# Altium integrated library Cypress Clocks & Buffers Clock Generation.IntLib: 249 symbols (part 12 of 12)
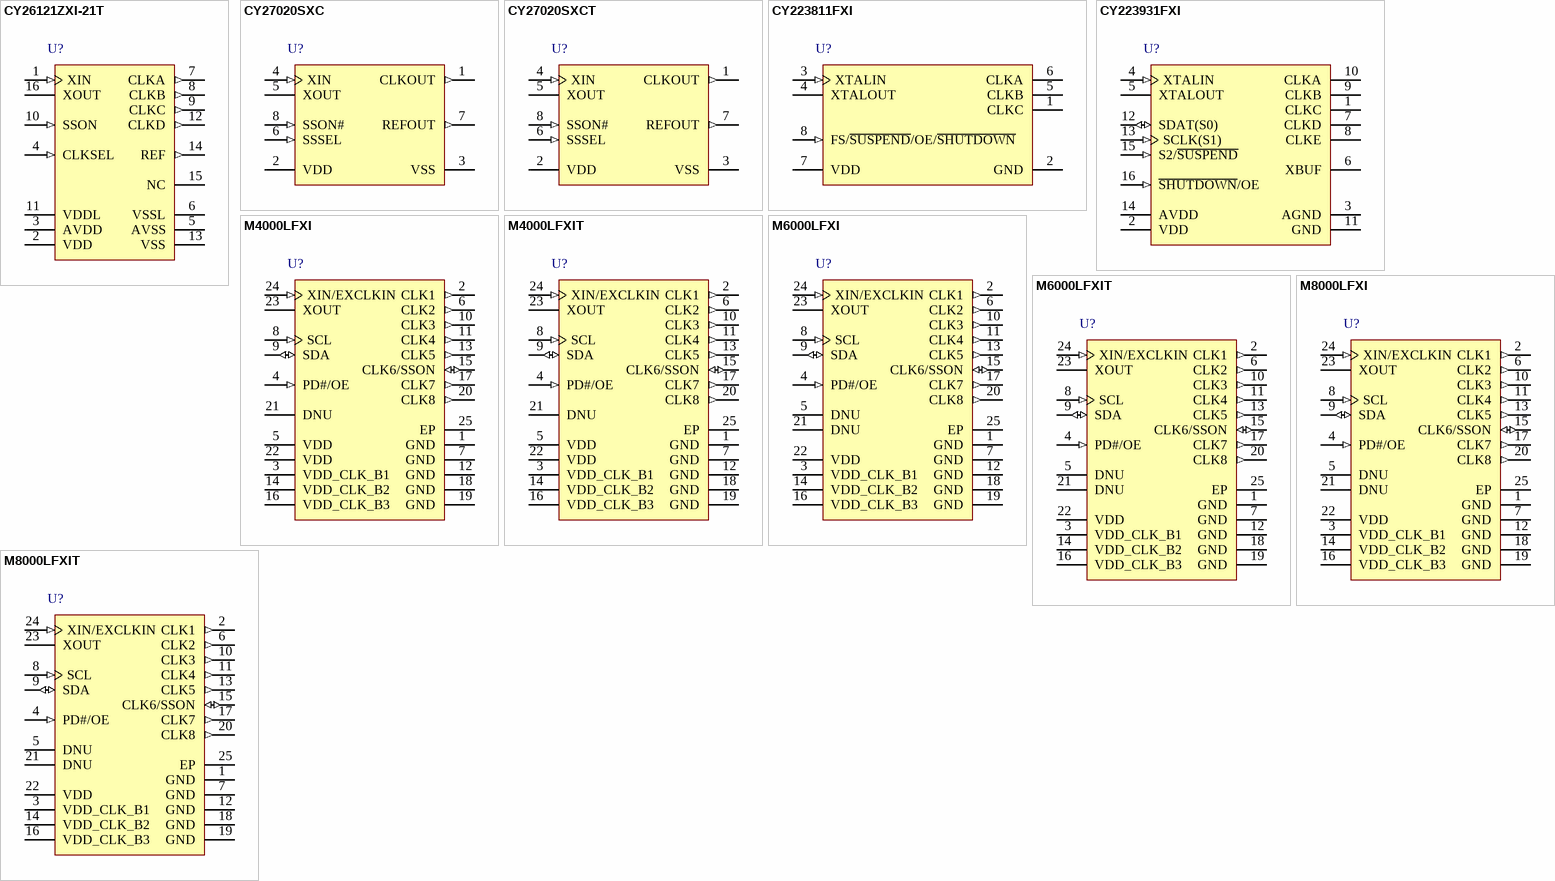
[diagram p19: symbols CY26121ZXI-21T to M8000LFXIT]

## CY27020SXCT
designator U?
Spread Spectrum Clock Generator, 3.3 V, 2 Outputs, 48 MHz, 0 to 70 degC, 8-Pin SOIC (SX8), Tape and Reel; Manufacturer: Cypress; PartNumber: CY27020SXCT; Input Frequency Max. (MHz): 44; Input Frequency Min. (MHz): 52; Max. Operating Voltage (V): 3.63; Min. Operating Voltage (V): 2.97; No. of Outputs: 2; DatasheetVersion: Rev. *F; PackageVersion: Rev. *E, 06/2011; PackageReference: SX8; PackageDescription: 8-pin Lead SOIC-S08, Body 4.89 x 3.90 mm,Pitch 1.27 mm; Supplier 1: Digi-Key; Supplier Part Number 1: CY27020SXCT-ND; Supplier 2: Mouser; Supplier Part Number 2: 727-CY27020SXCT; Max. Operating Temp. (degreesC): 70; Min. Operating Temp. (degreesC): 0; Packing: Tape and Reel; RoHS: Pb-Free; Mounting Technology: Surface Mount; Code_JEDEC: MS-012; ComponentLink1Description: Manufacturer URL; ComponentLink1URL: http://www.cypress.com/; ComponentLink2Description: Datasheet; ComponentLink2URL: http://www.cypress.com/?docID=46287; ComponentLink3Description: Package Specification; ComponentLink3URL: http://www.cypress.com/?docID=39153
footprint CYP-SX8_N (SOIC, 8-Leads, Body 4.89x3.90mm, Pitch 1.27mm, IPC Medium Density)
footprint CYP-SX8_L (SOIC, 8-Leads, Body 4.89x3.90mm, Pitch 1.27mm, IPC High Density)
footprint CYP-SX8_M (SOIC, 8-Leads, Body 4.89x3.90mm, Pitch 1.27mm, IPC Low Density)
pins: 1 CLKOUT (out) "Fixed frequency 48.00 MHz spread spectrum clock output. See Table on page 1 for frequency selections", 2 VDD (power) "3.3-V power supply", 3 VSS (power) "Ground", 4 XIN (in) "Oscillator buffer input. Connect to an external parallel resonant crystal (nominally 48.00 MHz) or externally generated 48 MHz reference clock.", 5 XOUT "Oscillator buffer output. Connect to an external parallel resonant crystal. Do not connect when an externally generated reference clock is applied at XIN.", 6 SSSEL (in) "Spread spectrum percentage select input. See Table on page 1 for details.", 7 REFOUT (out) "Buffered output of XIN.", 8 SSON# (in) "Spread spectrum enable input. When asserted LOW, spread spectrum is enabled."

## CY223811FXI
designator U?
Three-PLL General Purpose FLASH Programmable Clock Generator, 3.3 V, 3 Outputs, 166 MHz Maximum, -40 to 85 degC, 8-Pin SOIC (SX8), Tube; Manufacturer: Cypress; PartNumber: CY223811FXI; Input Frequency Max. (MHz): 150; Input Frequency Min. (MHz): 1; Max. Operating Voltage (V): 3.465; Min. Operating Voltage (V): 3.135; No. of Outputs: 3; Output Frequency Max. (MHz): 166; DatasheetVersion: Rev. *I; PackageVersion: Rev. *E, 06/2011; PackageReference: SX8; PackageDescription: 8-pin Lead SOIC-S08, Body 4.89 x 3.90 mm,Pitch 1.27 mm; Supplier 1: Digi-Key; Supplier Part Number 1: CY223811FXI-ND; Supplier 2: Newark; Supplier Part Number 2: 07R8325; Supplier 3: Mouser; Supplier Part Number 3: 727-CY223811FXI; Max. Operating Temp. (degreesC): 85; Min. Operating Temp. (degreesC): -40; Packing: Tube; RoHS: Pb-Free; Mounting Technology: Surface Mount; Code_JEDEC: MS-012; ComponentLink1Description: Manufacturer URL; ComponentLink1URL: http://www.cypress.com/; ComponentLink2Description: Datasheet; ComponentLink2URL: http://www.cypress.com/?docID=29347; ComponentLink3Description: Package Specification; ComponentLink3URL: http://www.cypress.com/?docID=39153
footprint CYP-SX8_N (SOIC, 8-Leads, Body 4.89x3.90mm, Pitch 1.27mm, IPC Medium Density)
footprint CYP-SX8_L (SOIC, 8-Leads, Body 4.89x3.90mm, Pitch 1.27mm, IPC High Density)
footprint CYP-SX8_M (SOIC, 8-Leads, Body 4.89x3.90mm, Pitch 1.27mm, IPC Low Density)
pins: 1 CLKC (hiz) "Configurable clock output C", 2 GND (power) "Ground", 3 XTALIN (in) "Reference crystal input or external reference clock input", 4 XTALOUT "Reference crystal feedback (float if XTALIN is driven by external reference clock)", 5 CLKB (hiz) "Configurable clock output B", 6 CLKA (hiz) "Configurable clock output A", 7 VDD (power) "Power supply", 8 FS/~{SUSPEND}/OE/~{SHUTDOWN} (in) "General Purpose Input. Can be Frequency Control, Suspend mode control, Output Enable, or full-chip shutdown."

## CY223931FXI
designator U?
Three-PLL Serial-Programmable Flash-Programmable Clock Generator, 3.3 V, 6 Outputs, 166 MHz Maximum, -40 to 85 degC, 16-Pin TSSOP (ZX16), Tube; Manufacturer: Cypress; PartNumber: CY223931FXI; Input Frequency Max. (MHz): 166; Input Frequency Min. (MHz): 1; Max. Operating Voltage (V): 3.465; Min. Operating Voltage (V): 3.135; No. of Outputs: 6; DatasheetVersion: Rev. *I; PackageVersion: Rev. *D, 09/2011; PackageReference: ZX16; PackageDescription: 16-Pin Thin Shrink Small Outline Package, Body 5 x 4.4 mm, Pitch 0.65 mm; Supplier 1: Digi-Key; Supplier Part Number 1: CY223931FXI-ND; Supplier 2: Mouser; Supplier Part Number 2: 727-CY223931FXI; Max. Operating Temp. (degreesC): 85; Min. Operating Temp. (degreesC): -40; Output Frequency Max. (MHz): 166; Packing: Tube; RoHS: Pb-Free; Mounting Technology: Surface Mount; Code_JEDEC: MO-153; ComponentLink1Description: Manufacturer URL; ComponentLink1URL: http://www.cypress.com/; ComponentLink2Description: Datasheet; ComponentLink2URL: http://www.cypress.com/?docID=35555; ComponentLink3Description: Package Specification; ComponentLink3URL: http://www.cypress.com/?docID=39143
footprint CYP-ZX16_N (SOP, 16-Leads, Body 5.1x4.5mm, Pitch 0.65mm, IPC Medium Density)
footprint CYP-ZX16_L (SOP, 16-Leads, Body 5.1x4.5mm, Pitch 0.65mm, IPC High Density)
footprint CYP-ZX16_M (SOP, 16-Leads, Body 5.1x4.5mm, Pitch 0.65mm, IPC Low Density)
pins: 1 CLKC (hiz) "Configurable clock output C", 2 VDD (power) "Power supply", 3 AGND (power) "Analog Ground", 4 XTALIN (in) "Reference crystal input or external reference clock input", 5 XTALOUT "Reference crystal feedback", 6 XBUF (hiz) "Buffered reference clock output", 7 CLKD (hiz) "Configurable clock output D; LCLKD referenced to LVDD", 8 CLKE (hiz) "Configurable clock output E; LCLKE referenced to LVDD", 9 CLKB (hiz) "Configurable clock output B; LCLKB referenced to LVDD", 10 CLKA (hiz) "Configurable clock output A; LCLKA referenced to LVDD", 11 GND (power) "Ground", 12 SDAT(S0) (io) "Serial port data. S0 value latched during start up", 13 SCLK(S1) (in) "Serial port clock. S1 value latched during start up", 14 AVDD (power) "Analog power supply", 15 S2/~{SUSPEND} (in) "General purpose input for frequency control; bit 2. Optionally, Suspend mode control input", 16 ~{SHUTDOWN}/OE (in) "Places outputs in tristate condition and shuts down chip when LOW. Optionally, only places outputs in tristate condition and does not shut down chip when LOW"

## M4000LFXI
designator U?
Four-PLL Programmable Clock Generator for Portable Applications, 1.5 / 1.8 / 2.5 / 3.0 / 3.3 V, 8 Outputs, 3 to 50 MHz, -40 to 85 degC, 24-Pin QFN (LFX24), Tube; Manufacturer: Cypress; PartNumber: M4000LFXI; Input Frequency Max. (MHz): 48; Input Frequency Min. (MHz): 1; Max. Operating Voltage (V): 1.95; Min. Operating Voltage (V): 1.65; No. of Outputs: 8; Output Frequency Max. (MHz): 50; Output Frequency Min. (MHz): 3; DatasheetVersion: Rev. *D; PackageVersion: Rev. *D, 08/2012; PackageReference: LFX24; PackageDescription: 24-Pin Quad Flat No Lead, Body 4 x 4 mm, Pitch 0.5 mm; Max. Operating Temp. (degreesC): 85; Min. Operating Temp. (degreesC): -40; Packing: Tube; RoHS: Pb-Free; Mounting Technology: Surface Mount; Code_JEDEC: MO-220; ComponentLink1Description: Manufacturer URL; ComponentLink1URL: http://www.cypress.com/; ComponentLink2Description: Datasheet; ComponentLink2URL: http://www.cypress.com/?docID=47266; ComponentLink3Description: Package Specification; ComponentLink3URL: http://www.cypress.com/?docID=39297
footprint CYP-LFX24_N (QFN, 24-Leads, Body 4.1x4.1mm, Pitch 0.5mm, Thermal Pad 2.49x2.49mm, IPC Medium Density)
footprint CYP-LFX24_L (QFN, 24-Leads, Body 4.1x4.1mm, Pitch 0.5mm, Thermal Pad 2.49x2.49mm, IPC High Density)
footprint CYP-LFX24_M (QFN, 24-Leads, Body 4.1x4.1mm, Pitch 0.5mm, Thermal Pad 2.49x2.49mm, IPC Low Density)
pins: 1 GND (power) "Power supply ground", 2 CLK1 (out) "Programmable clock output. Output voltage depends on VDD_CLK_B1 voltage", 3 VDD_CLK_B1 (power) "Power supply for bank1, (CLK1, CLK2) Outputs: 1.5 V/1.8 V/2.5 V/3.0 V/3.3 V", 4 PD#/OE (in) "Multifunction programmable pin. Output enable or power-down mode", 5 VDD (power) "Power supply for core and inputs: 1.8 V", 6 CLK2 (out) "Programmable Clock Output. Output voltage depends on VDD_CLK_B1 voltage", 7 GND (power) "Power supply ground", 8 SCL (in) "Serial data clock", 9 SDA (io) "Serial data input/output", 10 CLK3 (out) "Programmable clock output. Output voltage depends on VDD_CLK_B2 voltage", 11 CLK4 (out) "Programmable clock output. Output voltage depends on VDD_CLK_B2 voltage", 12 GND (power) "Power supply ground", 13 CLK5 (out) "Programmable clock output. Output voltage depends on VDD_CLK_B2 voltage", 14 VDD_CLK_B2 (power) "Power supply for bank2, (CLK3, CLK4, CLK5) Outputs. 1.5 V/1.8 V/2.5 V/3.0 V/3.3 V", 15 CLK6/SSON (io) "Multifunction Programmable pin: Programmable Clock Output or Spread Spectrum control input pin. Output voltage depends on VDD_CLK_B3 voltage", 16 VDD_CLK_B3 (power) "Power supply for bank3, (CLK6, CLK7, CLK8) Outputs. 1.5 V/1.8 V/2.5 V/3.0 V/3.3 V", 17 CLK7 (out) "Programmable output clock. Output voltage depends on Bank3 voltage", 18 GND (power) "Power supply ground", 19 GND (power) "Power supply ground", 20 CLK8 (out) "Programmable clock output. Output voltage depends on VDD_CLK_B3 voltage", 21 DNU "Do Not Use", 22 VDD (power) "Power supply. 1.8 V", 23 XOUT "Crystal output", 24 XIN/EXCLKIN (in) "Crystal input or 1.8 V external clock input", 25 EP

## M4000LFXIT
designator U?
Four-PLL Programmable Clock Generator for Portable Applications, 1.5 / 1.8 / 2.5 / 3.0 / 3.3 V, 8 Outputs, 3 to 50 MHz, -40 to 85 degC, 24-Pin QFN (LFX24), Tape and Reel; Manufacturer: Cypress; PartNumber: M4000LFXIT; Input Frequency Max. (MHz): 48; Input Frequency Min. (MHz): 1; Max. Operating Voltage (V): 1.95; Min. Operating Voltage (V): 1.65; No. of Outputs: 8; Output Frequency Max. (MHz): 50; Output Frequency Min. (MHz): 3; DatasheetVersion: Rev. *D; PackageVersion: Rev. *D, 08/2012; PackageReference: LFX24; PackageDescription: 24-Pin Quad Flat No Lead, Body 4 x 4 mm, Pitch 0.5 mm; Max. Operating Temp. (degreesC): 85; Min. Operating Temp. (degreesC): -40; Packing: Tape and Reel; RoHS: Pb-Free; Mounting Technology: Surface Mount; Code_JEDEC: MO-220; ComponentLink1Description: Manufacturer URL; ComponentLink1URL: http://www.cypress.com/; ComponentLink2Description: Datasheet; ComponentLink2URL: http://www.cypress.com/?docID=47266; ComponentLink3Description: Package Specification; ComponentLink3URL: http://www.cypress.com/?docID=39297
footprint CYP-LFX24_N (QFN, 24-Leads, Body 4.1x4.1mm, Pitch 0.5mm, Thermal Pad 2.49x2.49mm, IPC Medium Density)
footprint CYP-LFX24_L (QFN, 24-Leads, Body 4.1x4.1mm, Pitch 0.5mm, Thermal Pad 2.49x2.49mm, IPC High Density)
footprint CYP-LFX24_M (QFN, 24-Leads, Body 4.1x4.1mm, Pitch 0.5mm, Thermal Pad 2.49x2.49mm, IPC Low Density)
pins: 1 GND (power) "Power supply ground", 2 CLK1 (out) "Programmable clock output. Output voltage depends on VDD_CLK_B1 voltage", 3 VDD_CLK_B1 (power) "Power supply for bank1, (CLK1, CLK2) Outputs: 1.5 V/1.8 V/2.5 V/3.0 V/3.3 V", 4 PD#/OE (in) "Multifunction programmable pin. Output enable or power-down mode", 5 VDD (power) "Power supply for core and inputs: 1.8 V", 6 CLK2 (out) "Programmable Clock Output. Output voltage depends on VDD_CLK_B1 voltage", 7 GND (power) "Power supply ground", 8 SCL (in) "Serial data clock", 9 SDA (io) "Serial data input/output", 10 CLK3 (out) "Programmable clock output. Output voltage depends on VDD_CLK_B2 voltage", 11 CLK4 (out) "Programmable clock output. Output voltage depends on VDD_CLK_B2 voltage", 12 GND (power) "Power supply ground", 13 CLK5 (out) "Programmable clock output. Output voltage depends on VDD_CLK_B2 voltage", 14 VDD_CLK_B2 (power) "Power supply for bank2, (CLK3, CLK4, CLK5) Outputs. 1.5 V/1.8 V/2.5 V/3.0 V/3.3 V", 15 CLK6/SSON (io) "Multifunction Programmable pin: Programmable Clock Output or Spread Spectrum control input pin. Output voltage depends on VDD_CLK_B3 voltage", 16 VDD_CLK_B3 (power) "Power supply for bank3, (CLK6, CLK7, CLK8) Outputs. 1.5 V/1.8 V/2.5 V/3.0 V/3.3 V", 17 CLK7 (out) "Programmable output clock. Output voltage depends on Bank3 voltage", 18 GND (power) "Power supply ground", 19 GND (power) "Power supply ground", 20 CLK8 (out) "Programmable clock output. Output voltage depends on VDD_CLK_B3 voltage", 21 DNU "Do Not Use", 22 VDD (power) "Power supply. 1.8 V", 23 XOUT "Crystal output", 24 XIN/EXCLKIN (in) "Crystal input or 1.8 V external clock input", 25 EP

## M6000LFXI
designator U?
Three-PLL Programmable Clock Generator for Portable Applications, 1.5 / 1.8 / 2.5 / 3.0 / 3.3 V, 8 Outputs, 3 to 50 MHz, -40 to 85 degC, 24-Pin QFN (LFX24), Tube; Manufacturer: Cypress; PartNumber: M6000LFXI; Input Frequency Max. (MHz): 48; Input Frequency Min. (MHz): 1; Max. Operating Voltage (V): 3.6; Min. Operating Voltage (V): 2.25; No. of Outputs: 8; Output Frequency Max. (MHz): 50; Output Frequency Min. (MHz): 3; DatasheetVersion: Rev. *D; PackageVersion: Rev. *D, 08/2012; PackageReference: LFX24; PackageDescription: 24-Pin Quad Flat No Lead, Body 4 x 4 mm, Pitch 0.5 mm; Max. Operating Temp. (degreesC): 85; Min. Operating Temp. (degreesC): -40; Packing: Tube; RoHS: Pb-Free; Mounting Technology: Surface Mount; Code_JEDEC: MO-220; ComponentLink1Description: Manufacturer URL; ComponentLink1URL: http://www.cypress.com/; ComponentLink2Description: Datasheet; ComponentLink2URL: http://www.cypress.com/?docID=47222; ComponentLink3Description: Package Specification; ComponentLink3URL: http://www.cypress.com/?docID=39297
footprint CYP-LFX24_N (QFN, 24-Leads, Body 4.1x4.1mm, Pitch 0.5mm, Thermal Pad 2.49x2.49mm, IPC Medium Density)
footprint CYP-LFX24_L (QFN, 24-Leads, Body 4.1x4.1mm, Pitch 0.5mm, Thermal Pad 2.49x2.49mm, IPC High Density)
footprint CYP-LFX24_M (QFN, 24-Leads, Body 4.1x4.1mm, Pitch 0.5mm, Thermal Pad 2.49x2.49mm, IPC Low Density)
pins: 1 GND (power) "Power supply ground", 2 CLK1 (out) "Programmable clock output. Output voltage depends on VDD_CLK_B1 voltage", 3 VDD_CLK_B1 (power) "Power supply for bank1, (CLK1, CLK2) Outputs: 1.5 V/1.8 V/2.5 V/3.0 V/3.3 V", 4 PD#/OE (in) "Multifunction programmable pin. Output enable or power-down mode", 5 DNU "Do not use", 6 CLK2 (out) "Programmable Clock Output. Output voltage depends on VDD_CLK_B1 voltage", 7 GND (power) "Power supply ground", 8 SCL (in) "Serial data clock", 9 SDA (io) "Serial data input/output", 10 CLK3 (out) "Programmable clock output. Output voltage depends on VDD_CLK_B2 voltage", 11 CLK4 (out) "Programmable clock output. Output voltage depends on VDD_CLK_B2 voltage", 12 GND (power) "Power supply ground", 13 CLK5 (out) "Programmable clock output. Output voltage depends on VDD_CLK_B2 voltage", 14 VDD_CLK_B2 (power) "Power supply for bank2, (CLK3, CLK4, CLK5) Outputs. 1.5 V/1.8 V/2.5 V/3.0 V/3.3 V", 15 CLK6/SSON (io) "Multifunction Programmable pin: Programmable Clock Output or Spread Spectrum control input pin. Output voltage depends on VDD_CLK_B3 voltage", 16 VDD_CLK_B3 (power) "Power supply for bank3, (CLK6, CLK7, CLK8) Outputs. 1.5 V/1.8 V/2.5 V/3.0 V/3.3 V", 17 CLK7 (out) "Programmable output clock. Output voltage depends on Bank3 voltage", 18 GND (power) "Power supply ground", 19 GND (power) "Power supply ground", 20 CLK8 (out) "Programmable clock output. Output voltage depends on VDD_CLK_B3 voltage", 21 DNU "Do Not Use", 22 VDD (power) "Power supply. 1.8 V", 23 XOUT "Crystal output", 24 XIN/EXCLKIN (in) "Crystal input or 1.8 V external clock input", 25 EP

## M6000LFXIT
designator U?
Three-PLL Programmable Clock Generator for Portable Applications, 1.5 / 1.8 / 2.5 / 3.0 / 3.3 V, 8 Outputs, 3 to 50 MHz, -40 to 85 degC, 24-Pin QFN (LFX24), Tape and Reel; Manufacturer: Cypress; PartNumber: M6000LFXIT; Input Frequency Max. (MHz): 48; Input Frequency Min. (MHz): 1; Max. Operating Voltage (V): 3.6; Min. Operating Voltage (V): 2.25; No. of Outputs: 8; Output Frequency Max. (MHz): 50; Output Frequency Min. (MHz): 3; DatasheetVersion: Rev. *D; PackageVersion: Rev. *D, 08/2012; PackageReference: LFX24; PackageDescription: 24-Pin Quad Flat No Lead, Body 4 x 4 mm, Pitch 0.5 mm; Max. Operating Temp. (degreesC): 85; Min. Operating Temp. (degreesC): -40; Packing: Tape and Reel; RoHS: Pb-Free; Mounting Technology: Surface Mount; Code_JEDEC: MO-220; ComponentLink1Description: Manufacturer URL; ComponentLink1URL: http://www.cypress.com/; ComponentLink2Description: Datasheet; ComponentLink2URL: http://www.cypress.com/?docID=47222; ComponentLink3Description: Package Specification; ComponentLink3URL: http://www.cypress.com/?docID=39297
footprint CYP-LFX24_N (QFN, 24-Leads, Body 4.1x4.1mm, Pitch 0.5mm, Thermal Pad 2.49x2.49mm, IPC Medium Density)
footprint CYP-LFX24_L (QFN, 24-Leads, Body 4.1x4.1mm, Pitch 0.5mm, Thermal Pad 2.49x2.49mm, IPC High Density)
footprint CYP-LFX24_M (QFN, 24-Leads, Body 4.1x4.1mm, Pitch 0.5mm, Thermal Pad 2.49x2.49mm, IPC Low Density)
pins: 1 GND (power) "Power supply ground", 2 CLK1 (out) "Programmable clock output. Output voltage depends on VDD_CLK_B1 voltage", 3 VDD_CLK_B1 (power) "Power supply for bank1, (CLK1, CLK2) Outputs: 1.5 V/1.8 V/2.5 V/3.0 V/3.3 V", 4 PD#/OE (in) "Multifunction programmable pin. Output enable or power-down mode", 5 DNU "Do not use", 6 CLK2 (out) "Programmable Clock Output. Output voltage depends on VDD_CLK_B1 voltage", 7 GND (power) "Power supply ground", 8 SCL (in) "Serial data clock", 9 SDA (io) "Serial data input/output", 10 CLK3 (out) "Programmable clock output. Output voltage depends on VDD_CLK_B2 voltage", 11 CLK4 (out) "Programmable clock output. Output voltage depends on VDD_CLK_B2 voltage", 12 GND (power) "Power supply ground", 13 CLK5 (out) "Programmable clock output. Output voltage depends on VDD_CLK_B2 voltage", 14 VDD_CLK_B2 (power) "Power supply for bank2, (CLK3, CLK4, CLK5) Outputs. 1.5 V/1.8 V/2.5 V/3.0 V/3.3 V", 15 CLK6/SSON (io) "Multifunction Programmable pin: Programmable Clock Output or Spread Spectrum control input pin. Output voltage depends on VDD_CLK_B3 voltage", 16 VDD_CLK_B3 (power) "Power supply for bank3, (CLK6, CLK7, CLK8) Outputs. 1.5 V/1.8 V/2.5 V/3.0 V/3.3 V", 17 CLK7 (out) "Programmable output clock. Output voltage depends on Bank3 voltage", 18 GND (power) "Power supply ground", 19 GND (power) "Power supply ground", 20 CLK8 (out) "Programmable clock output. Output voltage depends on VDD_CLK_B3 voltage", 21 DNU "Do Not Use", 22 VDD (power) "Power supply. 1.8 V", 23 XOUT "Crystal output", 24 XIN/EXCLKIN (in) "Crystal input or 1.8 V external clock input", 25 EP

## M8000LFXI
designator U?
Four-PLL Programmable Clock Generator for Portable Applications, 1.5 / 1.8 / 2.5 / 3.0 / 3.3 V, 8 Outputs, 3 to 50 MHz, -40 to 85 degC, 24-Pin QFN (LFX24), Tube; Manufacturer: Cypress; PartNumber: M8000LFXI; Input Frequency Max. (MHz): 48; Input Frequency Min. (MHz): 1; Max. Operating Voltage (V): 3.6; Min. Operating Voltage (V): 2.25; No. of Outputs: 8; Output Frequency Max. (MHz): 50; Output Frequency Min. (MHz): 3; DatasheetVersion: Rev. *D; PackageVersion: Rev. *D, 08/2012; PackageReference: LFX24; PackageDescription: 24-Pin Quad Flat No Lead, Body 4 x 4 mm, Pitch 0.5 mm; Max. Operating Temp. (degreesC): 85; Min. Operating Temp. (degreesC): -40; Packing: Tube; RoHS: Pb-Free; Mounting Technology: Surface Mount; Code_JEDEC: MO-220; ComponentLink1Description: Manufacturer URL; ComponentLink1URL: http://www.cypress.com/; ComponentLink2Description: Datasheet; ComponentLink2URL: http://www.cypress.com/?docID=47266; ComponentLink3Description: Package Specification; ComponentLink3URL: http://www.cypress.com/?docID=39297
footprint CYP-LFX24_N (QFN, 24-Leads, Body 4.1x4.1mm, Pitch 0.5mm, Thermal Pad 2.49x2.49mm, IPC Medium Density)
footprint CYP-LFX24_L (QFN, 24-Leads, Body 4.1x4.1mm, Pitch 0.5mm, Thermal Pad 2.49x2.49mm, IPC High Density)
footprint CYP-LFX24_M (QFN, 24-Leads, Body 4.1x4.1mm, Pitch 0.5mm, Thermal Pad 2.49x2.49mm, IPC Low Density)
pins: 1 GND (power) "Power supply ground", 2 CLK1 (out) "Programmable clock output. Output voltage depends on VDD_CLK_B1 voltage", 3 VDD_CLK_B1 (power) "Power supply for bank1, (CLK1, CLK2) Outputs: 1.5 V/1.8 V/2.5 V/3.0 V/3.3 V", 4 PD#/OE (in) "Multifunction programmable pin. Output enable or power-down mode", 5 DNU "Do not use", 6 CLK2 (out) "Programmable Clock Output. Output voltage depends on VDD_CLK_B1 voltage", 7 GND (power) "Power supply ground", 8 SCL (in) "Serial data clock", 9 SDA (io) "Serial data input/output", 10 CLK3 (out) "Programmable clock output. Output voltage depends on VDD_CLK_B2 voltage", 11 CLK4 (out) "Programmable clock output. Output voltage depends on VDD_CLK_B2 voltage", 12 GND (power) "Power supply ground", 13 CLK5 (out) "Programmable clock output. Output voltage depends on VDD_CLK_B2 voltage", 14 VDD_CLK_B2 (power) "Power supply for bank2, (CLK3, CLK4, CLK5) Outputs. 1.5 V/1.8 V/2.5 V/3.0 V/3.3 V", 15 CLK6/SSON (io) "Multifunction Programmable pin: Programmable Clock Output or Spread Spectrum control input pin. Output voltage depends on VDD_CLK_B3 voltage", 16 VDD_CLK_B3 (power) "Power supply for bank3, (CLK6, CLK7, CLK8) Outputs. 1.5 V/1.8 V/2.5 V/3.0 V/3.3 V", 17 CLK7 (out) "Programmable output clock. Output voltage depends on Bank3 voltage", 18 GND (power) "Power supply ground", 19 GND (power) "Power supply ground", 20 CLK8 (out) "Programmable clock output. Output voltage depends on VDD_CLK_B3 voltage", 21 DNU "Do Not Use", 22 VDD (power) "Power supply. 2.5 V/3.0 V/3.3 V", 23 XOUT "Crystal output", 24 XIN/EXCLKIN (in) "Crystal input or 1.8 V external clock input", 25 EP

## M8000LFXIT
designator U?
Four-PLL Programmable Clock Generator for Portable Applications, 1.5 / 1.8 / 2.5 / 3.0 / 3.3 V, 8 Outputs, 3 to 50 MHz, -40 to 85 degC, 24-Pin QFN (LFX24), Tape and Reel; Manufacturer: Cypress; PartNumber: M8000LFXIT; Input Frequency Max. (MHz): 48; Input Frequency Min. (MHz): 1; Max. Operating Voltage (V): 3.6; Min. Operating Voltage (V): 2.25; No. of Outputs: 8; Output Frequency Max. (MHz): 50; Output Frequency Min. (MHz): 3; DatasheetVersion: Rev. *D; PackageVersion: Rev. *D, 08/2012; PackageReference: LFX24; PackageDescription: 24-Pin Quad Flat No Lead, Body 4 x 4 mm, Pitch 0.5 mm; Max. Operating Temp. (degreesC): 85; Min. Operating Temp. (degreesC): -40; Packing: Tape and Reel; RoHS: Pb-Free; Mounting Technology: Surface Mount; Code_JEDEC: MO-220; ComponentLink1Description: Manufacturer URL; ComponentLink1URL: http://www.cypress.com/; ComponentLink2Description: Datasheet; ComponentLink2URL: http://www.cypress.com/?docID=47266; ComponentLink3Description: Package Specification; ComponentLink3URL: http://www.cypress.com/?docID=39297
footprint CYP-LFX24_N (QFN, 24-Leads, Body 4.1x4.1mm, Pitch 0.5mm, Thermal Pad 2.49x2.49mm, IPC Medium Density)
footprint CYP-LFX24_L (QFN, 24-Leads, Body 4.1x4.1mm, Pitch 0.5mm, Thermal Pad 2.49x2.49mm, IPC High Density)
footprint CYP-LFX24_M (QFN, 24-Leads, Body 4.1x4.1mm, Pitch 0.5mm, Thermal Pad 2.49x2.49mm, IPC Low Density)
pins: 1 GND (power) "Power supply ground", 2 CLK1 (out) "Programmable clock output. Output voltage depends on VDD_CLK_B1 voltage", 3 VDD_CLK_B1 (power) "Power supply for bank1, (CLK1, CLK2) Outputs: 1.5 V/1.8 V/2.5 V/3.0 V/3.3 V", 4 PD#/OE (in) "Multifunction programmable pin. Output enable or power-down mode", 5 DNU "Do not use", 6 CLK2 (out) "Programmable Clock Output. Output voltage depends on VDD_CLK_B1 voltage", 7 GND (power) "Power supply ground", 8 SCL (in) "Serial data clock", 9 SDA (io) "Serial data input/output", 10 CLK3 (out) "Programmable clock output. Output voltage depends on VDD_CLK_B2 voltage", 11 CLK4 (out) "Programmable clock output. Output voltage depends on VDD_CLK_B2 voltage", 12 GND (power) "Power supply ground", 13 CLK5 (out) "Programmable clock output. Output voltage depends on VDD_CLK_B2 voltage", 14 VDD_CLK_B2 (power) "Power supply for bank2, (CLK3, CLK4, CLK5) Outputs. 1.5 V/1.8 V/2.5 V/3.0 V/3.3 V", 15 CLK6/SSON (io) "Multifunction Programmable pin: Programmable Clock Output or Spread Spectrum control input pin. Output voltage depends on VDD_CLK_B3 voltage", 16 VDD_CLK_B3 (power) "Power supply for bank3, (CLK6, CLK7, CLK8) Outputs. 1.5 V/1.8 V/2.5 V/3.0 V/3.3 V", 17 CLK7 (out) "Programmable output clock. Output voltage depends on Bank3 voltage", 18 GND (power) "Power supply ground", 19 GND (power) "Power supply ground", 20 CLK8 (out) "Programmable clock output. Output voltage depends on VDD_CLK_B3 voltage", 21 DNU "Do Not Use", 22 VDD (power) "Power supply. 2.5 V/3.0 V/3.3 V", 23 XOUT "Crystal output", 24 XIN/EXCLKIN (in) "Crystal input or 1.8 V external clock input", 25 EP